# EAGLE library part MEGA8L32A (library VinodMega8L)
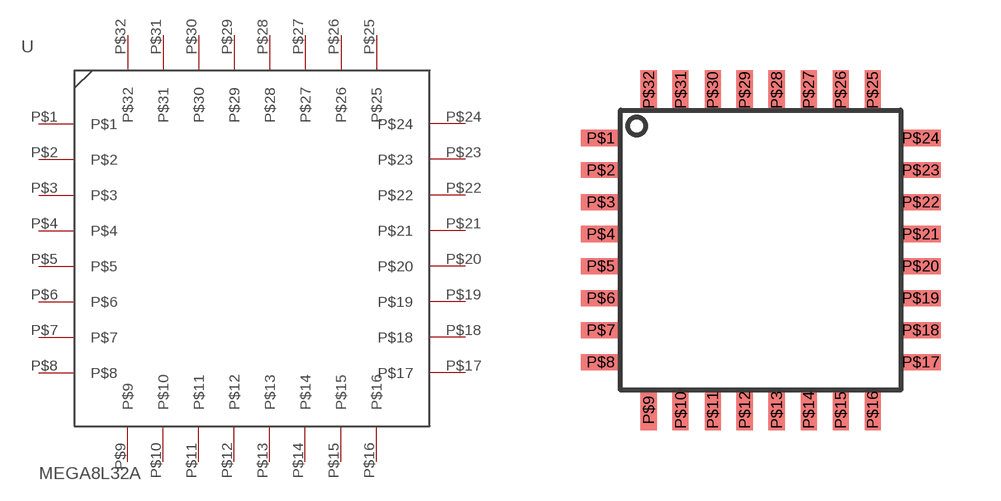
[diagram p0: symbol with the pads of TQFP-MEGA8L; footprint TQFP-MEGA8L]

Designator prefix -

## MEGA8L32A  [TQFP-MEGA8L]
P$1  P$1
P$2  P$2
P$3  P$3
P$4  P$4
P$5  P$5
P$6  P$6
P$7  P$7
P$8  P$8
P$9  P$9
P$10  P$10
P$11  P$11
P$12  P$12
P$13  P$13
P$14  P$14
P$15  P$15
P$16  P$16
P$17  P$17
P$18  P$18
P$19  P$19
P$20  P$20
P$21  P$21
P$22  P$22
P$23  P$23
P$24  P$24
P$25  P$25
P$26  P$26
P$27  P$27
P$28  P$28
P$29  P$29
P$30  P$30
P$31  P$31
P$32  P$32

## Footprint TQFP-MEGA8L (pad centres in mm)
smd 1 x 0.4: P$1 -4.1,2.6; P$2 -4.1,1.8; P$3 -4.1,1; P$4 -4.1,0.2; P$5 -4.1,-0.6; P$6 -4.1,-1.4; P$7 -4.1,-2.2; P$8 -4.1,-3; P$17 3.9,-3; P$18 3.9,-2.2; P$19 3.9,-1.4; P$20 3.9,-0.6; P$21 3.9,0.2; P$22 3.9,1; P$23 3.9,1.8; P$24 3.9,2.6
smd 0.4 x 1: P$9 -2.9,-4.2; P$10 -2.1,-4.2; P$11 -1.3,-4.2; P$12 -0.5,-4.2; P$13 0.3,-4.2; P$14 1.1,-4.2; P$15 1.9,-4.2; P$16 2.7,-4.2; P$25 2.7,3.8; P$26 1.9,3.8; P$27 1.1,3.8; P$28 0.3,3.8; P$29 -0.5,3.8; P$30 -1.3,3.8; P$31 -2.1,3.8; P$32 -2.9,3.8